# EAGLE library part CLP-105-XX-X-DH-XX (library con-samtec-clp)
RECEPTACAL
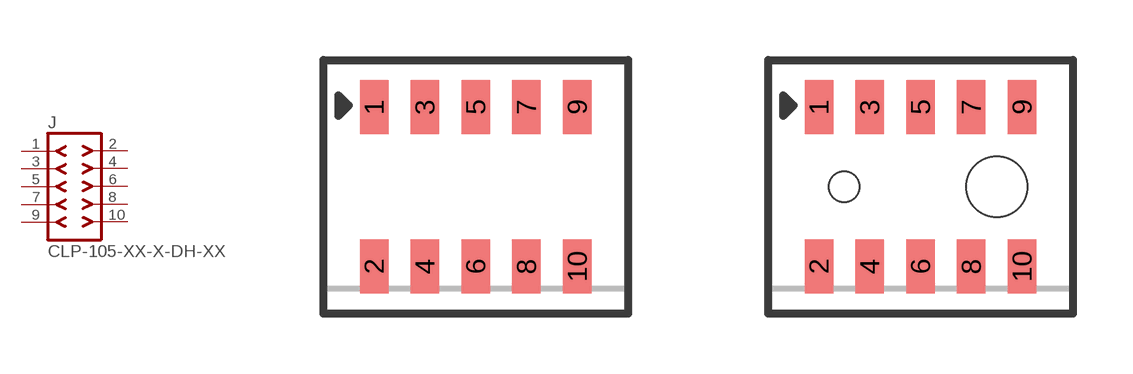
[diagram p1: symbol with the pads of CLP-105-XX-X-DH; footprints CLP-105-XX-X-DH, CLP-105-XX-X-DH-A]

Designator prefix J

## CLP-105-XX-X-DH-XX  [CLP-105-XX-X-DH]
1  1  pas
2  2  pas
3  3  pas
4  4  pas
5  5  pas
6  6  pas
7  7  pas
8  8  pas
9  9  pas
10  10  pas

## CLP-105-XX-X-DH-XXA  [CLP-105-XX-X-DH-A]
Pads as for CLP-105-XX-X-DH

## Footprint CLP-105-XX-X-DH (pad centres in mm)
RECEPTACAL
smd 0.711 x 1.346: 1 -2.54,1.994; 2 -2.54,-1.994; 3 -1.27,1.994; 4 -1.27,-1.994; 5 0,1.994; 6 0,-1.994; 7 1.27,1.994; 8 1.27,-1.994; 9 2.54,1.994; 10 2.54,-1.994

## Footprint CLP-105-XX-X-DH-A (pad centres in mm)
RECEPTACAL
smd 0.711 x 1.346: 1 -2.54,1.994; 2 -2.54,-1.994; 3 -1.27,1.994; 4 -1.27,-1.994; 5 0,1.994; 6 0,-1.994; 7 1.27,1.994; 8 1.27,-1.994; 9 2.54,1.994; 10 2.54,-1.994
hole 0.762 at -1.905,0
hole 1.524 at 1.905,0